# Altium schematic symbol library LM7805MPXNOPB.SchLib: 2 symbols
Pins are listed as number, name and electrical type; pins without a type are passive.

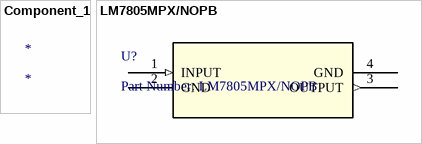
[diagram p0: symbols Component_1 to LM7805MPX/NOPB]

## Component_1
designator *

## LM7805MPX/NOPB
designator U?, comment Part Number: LM7805MPX/NOPB
No Description Available; Vendor: Texas Instruments; Built_By: EMA_Jessica; Manufacturer_Part_Number: LM7805MPX/NOPB; Copyright: Copyright (C) 2018 Accelerated Designs. All rights reserved; RefDes: RefDes; Type: DEV; Value: Value
footprint DCY4
pins: 1 INPUT (in), 2 GND (power), 3 OUTPUT (out), 4 GND (power)